# Altium schematic symbol library ISO7740FQDBQRQ1.SchLib: 1 symbol
Pins are listed as number, name and electrical type; pins without a type are passive.

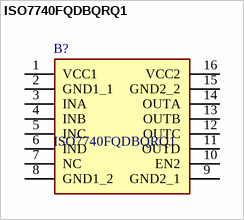
[diagram p0: symbol ISO7740FQDBQRQ1]

## ISO7740FQDBQRQ1
designator B?
Digital Isolator CMOS 4-CH 100Mbps Automotive 16-Pin SSOP T/R; Manufacturer_Name: Texas Instruments; Geometry.Height: 1.75mm; Mouser Part Number: 595-ISO7740FQDBQRQ1; Mouser Price/Stock: https://www.mouser.co.uk/ProductDetail/Texas-Instruments/ISO7740FQDBQRQ1?qs=5aG0NVq1C4z0rUYP%252BlPzPA%3D%3D; Manufacturer_Part_Number: ISO7740FQDBQRQ1; Datasheet Link: https://www.ti.com/lit/gpn/iso7741-q1
footprint SOP64P600X175-16N
pins: 1 VCC1, 2 GND1_1, 3 INA, 4 INB, 5 INC, 6 IND, 7 NC, 8 GND1_2, 9 GND2_1, 10 EN2, 11 OUTD, 12 OUTC, 13 OUTB, 14 OUTA, 15 GND2_2, 16 VCC2